# Altium integrated library Analog Devices Data Converters Digital-to-Analog Converters.IntLib: 2231 symbols (part 126 of 181)
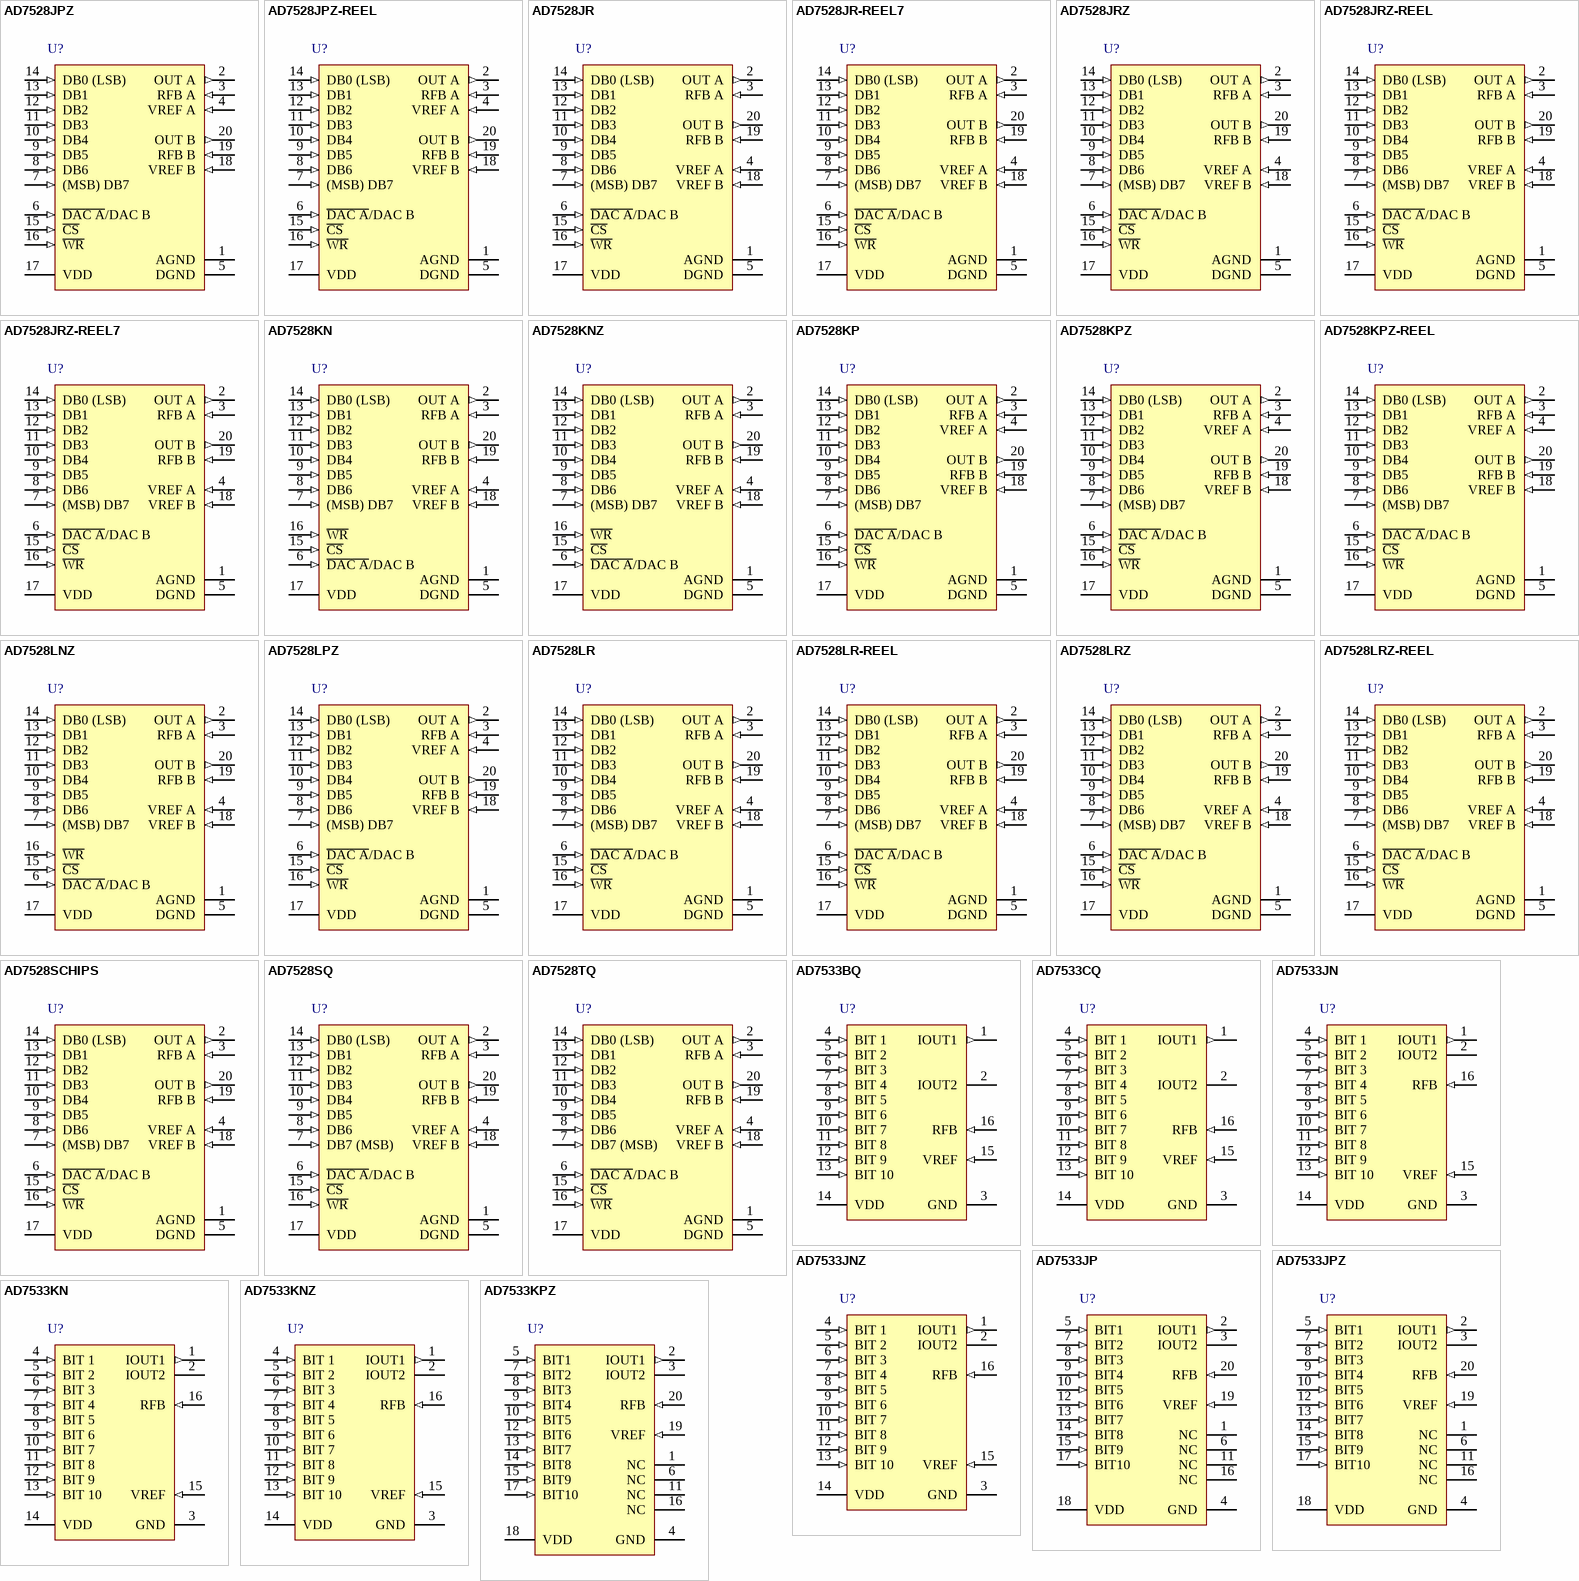
[diagram p239: symbols AD7528JPZ to AD7533KPZ]

## AD7533BQ
designator U?
Single 10-Bit CMOS Digital-to-Analog Converter, -40 to +85 degC, Q-16, Tube; Generic Part Number: AD7533; Manufacturer: Analog Devices; PartNumber: AD7533BQ; # DAC Outputs: 1; Max V+: 16.5V; Op Pwr Diss: 30mW; Resolution (Bits): 10; Settling Time: 600ns; Single Supply: Yes; DatasheetVersion: Rev.C; PackageVersion: 1996; PackageReference: Q-16; PackageDescription: DIP, 16-Pin, Skinny Dual In-line Package, 300mil Wide, Pitch 2.54 mm; Supplier 1: Digi-Key; Supplier Part Number 1: AD7533BQ-ND; Supplier 2: Mouser; Supplier Part Number 2: 584-AD7533BQ; Packing: Tube; RoHS: N; Mounting Technology: Through Hole; ComponentLink1Description: Manufacturer URL; ComponentLink1URL: http://www.analog.com/en/index.html; ComponentLink2Description: Datasheet; ComponentLink2URL: http://www.analog.com/static/imported-files/data_sheets/AD7533.pdf; ComponentLink3Description: Package Specification; ComponentLink3URL: http://www.analog.com/static/imported-files/packages/54083157002221Q_16.pdf; ComponentLink4Description: Product URL; ComponentLink4URL: http://www.analog.com/en/digital-to-analog-converters/da-converters/ad7533/products/product.html
footprint Q-16 (DIP, 16-Leads, Row Spacing 7.62mm, Pitch 2.54mm, Body 20.07x6.73mm)
pins: 1 IOUT1 (out) "DAC Current Output.", 2 IOUT2 "DAC Analog Ground. This pin should normally be tied to the analog ground of the system.", 3 GND (power) "Ground.", 4 BIT 1 (in) "MSB to LSB.", 5 BIT 2 (in) "MSB to LSB.", 6 BIT 3 (in) "MSB to LSB.", 7 BIT 4 (in) "MSB to LSB.", 8 BIT 5 (in) "MSB to LSB.", 9 BIT 6 (in) "MSB to LSB.", 10 BIT 7 (in) "MSB to LSB.", 11 BIT 8 (in) "MSB to LSB.", 12 BIT 9 (in) "MSB to LSB.", 13 BIT 10 (in) "MSB to LSB.", 14 VDD (power) "Positive Power Supply Input. These parts can be operated from a supply of 5 V to 16 V.", 15 VREF (in) "DAC Reference Voltage Input Terminal.", 16 RFB (in) "DAC Feedback Resistor Pin. Establish voltage output for the DAC by connecting RFB to external amplifier output."

## AD7533CQ
designator U?
Single 10-Bit CMOS Digital-to-Analog Converter, -40 to +85 degC, Q-16, Tube; Generic Part Number: AD7533; Manufacturer: Analog Devices; PartNumber: AD7533CQ; # DAC Outputs: 1; Max V+: 16.5V; Op Pwr Diss: 30mW; Resolution (Bits): 10; Settling Time: 600ns; Single Supply: Yes; DatasheetVersion: Rev.C; PackageVersion: 1996; PackageReference: Q-16; PackageDescription: DIP, 16-Pin, Skinny Dual In-line Package, 300mil Wide, Pitch 2.54 mm; Supplier 1: Digi-Key; Supplier Part Number 1: AD7533CQ-ND; Supplier 2: Newark; Supplier Part Number 2: 09B5774; Supplier 3: Mouser; Supplier Part Number 3: 584-AD7533CQ; Packing: Tube; RoHS: N; Mounting Technology: Through Hole; ComponentLink1Description: Manufacturer URL; ComponentLink1URL: http://www.analog.com/en/index.html; ComponentLink2Description: Datasheet; ComponentLink2URL: http://www.analog.com/static/imported-files/data_sheets/AD7533.pdf; ComponentLink3Description: Package Specification; ComponentLink3URL: http://www.analog.com/static/imported-files/packages/54083157002221Q_16.pdf; ComponentLink4Description: Product URL; ComponentLink4URL: http://www.analog.com/en/digital-to-analog-converters/da-converters/ad7533/products/product.html
footprint Q-16 (DIP, 16-Leads, Row Spacing 7.62mm, Pitch 2.54mm, Body 20.07x6.73mm)
pins: 1 IOUT1 (out) "DAC Current Output.", 2 IOUT2 "DAC Analog Ground. This pin should normally be tied to the analog ground of the system.", 3 GND (power) "Ground.", 4 BIT 1 (in) "MSB to LSB.", 5 BIT 2 (in) "MSB to LSB.", 6 BIT 3 (in) "MSB to LSB.", 7 BIT 4 (in) "MSB to LSB.", 8 BIT 5 (in) "MSB to LSB.", 9 BIT 6 (in) "MSB to LSB.", 10 BIT 7 (in) "MSB to LSB.", 11 BIT 8 (in) "MSB to LSB.", 12 BIT 9 (in) "MSB to LSB.", 13 BIT 10 (in) "MSB to LSB.", 14 VDD (power) "Positive Power Supply Input. These parts can be operated from a supply of 5 V to 16 V.", 15 VREF (in) "DAC Reference Voltage Input Terminal.", 16 RFB (in) "DAC Feedback Resistor Pin. Establish voltage output for the DAC by connecting RFB to external amplifier output."

## AD7533JN
designator U?
Single 10-Bit CMOS Digital-to-Analog Converter, 0 to +70 degC, N-16, Tube; Generic Part Number: AD7533; Manufacturer: Analog Devices; PartNumber: AD7533JN; # DAC Outputs: 1; Max V+: 16.5V; Op Pwr Diss: 30mW; Resolution (Bits): 10; Settling Time: 600ns; Single Supply: Yes; DatasheetVersion: Rev.C; PackageVersion: 070706-A; PackageReference: N-16; PackageDescription: 16-Lead Plastic Dual In-Line Package [PDIP] Narrow Body; Supplier 1: Digi-Key; Supplier Part Number 1: AD7533JN-ND; Supplier 2: Mouser; Supplier Part Number 2: 584-AD7533JN; Packing: Tube; RoHS: N; Mounting Technology: Through Hole; Code_JEDEC: MS-001; ComponentLink1Description: Manufacturer URL; ComponentLink1URL: http://www.analog.com/en/index.html; ComponentLink2Description: Datasheet; ComponentLink2URL: http://www.analog.com/static/imported-files/data_sheets/AD7533.pdf; ComponentLink3Description: Package Specification; ComponentLink3URL: http://www.analog.com/static/imported-files/packages/44768431550332N_16.pdf; ComponentLink4Description: Product URL; ComponentLink4URL: http://www.analog.com/en/digital-to-analog-converters/da-converters/ad7533/products/product.html
footprint N-16 (DIP, 16-Leads, Row Spacing 7.62mm, Pitch 2.54mm, Body 20.1x6.6mm)
pins: 1 IOUT1 (out) "DAC Current Output.", 2 IOUT2 "DAC Analog Ground. This pin should normally be tied to the analog ground of the system.", 3 GND (power) "Ground.", 4 BIT 1 (in) "MSB to LSB.", 5 BIT 2 (in) "MSB to LSB.", 6 BIT 3 (in) "MSB to LSB.", 7 BIT 4 (in) "MSB to LSB.", 8 BIT 5 (in) "MSB to LSB.", 9 BIT 6 (in) "MSB to LSB.", 10 BIT 7 (in) "MSB to LSB.", 11 BIT 8 (in) "MSB to LSB.", 12 BIT 9 (in) "MSB to LSB.", 13 BIT 10 (in) "MSB to LSB.", 14 VDD (power) "Positive Power Supply Input. These parts can be operated from a supply of 5 V to 16 V.", 15 VREF (in) "DAC Reference Voltage Input Terminal.", 16 RFB (in) "DAC Feedback Resistor Pin. Establish voltage output for the DAC by connecting RFB to external amplifier output."

## AD7533JNZ
designator U?
Single 10-Bit CMOS Digital-to-Analog Converter, 0 to +70 degC, N-16, Pb-Free, Tube; Generic Part Number: AD7533; Manufacturer: Analog Devices; PartNumber: AD7533JNZ; # DAC Outputs: 1; Max V+: 16.5V; Op Pwr Diss: 30mW; Resolution (Bits): 10; Settling Time: 600ns; Single Supply: Yes; DatasheetVersion: Rev.C; PackageVersion: 070706-A; PackageReference: N-16; PackageDescription: 16-Lead Plastic Dual In-Line Package [PDIP] Narrow Body; Supplier 1: Digi-Key; Supplier Part Number 1: AD7533JNZ-ND; Supplier 2: Farnell; Supplier Part Number 2: 9605410; Supplier 3: Newark; Supplier Part Number 3: 59K4979; Supplier 4: Mouser; Supplier Part Number 4: 584-AD7533JNZ; Packing: Tube; RoHS: Y; Mounting Technology: Through Hole; Code_JEDEC: MS-001; ComponentLink1Description: Manufacturer URL; ComponentLink1URL: http://www.analog.com/en/index.html; ComponentLink2Description: Datasheet; ComponentLink2URL: http://www.analog.com/static/imported-files/data_sheets/AD7533.pdf; ComponentLink3Description: Package Specification; ComponentLink3URL: http://www.analog.com/static/imported-files/packages/44768431550332N_16.pdf; ComponentLink4Description: Product URL; ComponentLink4URL: http://www.analog.com/en/digital-to-analog-converters/da-converters/ad7533/products/product.html
footprint N-16 (DIP, 16-Leads, Row Spacing 7.62mm, Pitch 2.54mm, Body 20.1x6.6mm)
pins: 1 IOUT1 (out) "DAC Current Output.", 2 IOUT2 "DAC Analog Ground. This pin should normally be tied to the analog ground of the system.", 3 GND (power) "Ground.", 4 BIT 1 (in) "MSB to LSB.", 5 BIT 2 (in) "MSB to LSB.", 6 BIT 3 (in) "MSB to LSB.", 7 BIT 4 (in) "MSB to LSB.", 8 BIT 5 (in) "MSB to LSB.", 9 BIT 6 (in) "MSB to LSB.", 10 BIT 7 (in) "MSB to LSB.", 11 BIT 8 (in) "MSB to LSB.", 12 BIT 9 (in) "MSB to LSB.", 13 BIT 10 (in) "MSB to LSB.", 14 VDD (power) "Positive Power Supply Input. These parts can be operated from a supply of 5 V to 16 V.", 15 VREF (in) "DAC Reference Voltage Input Terminal.", 16 RFB (in) "DAC Feedback Resistor Pin. Establish voltage output for the DAC by connecting RFB to external amplifier output."

## AD7533JP
designator U?
Single 10-Bit CMOS Digital-to-Analog Converter, 0 to +70 degC, P-20A, Tube; Generic Part Number: AD7533; Manufacturer: Analog Devices; PartNumber: AD7533JP; # DAC Outputs: 1; Max V+: 16.5V; Op Pwr Diss: 30mW; Resolution (Bits): 10; Settling Time: 600ns; Single Supply: Yes; DatasheetVersion: Rev.C; PackageVersion: Nov-2002; PackageReference: P-20A; PackageDescription: 20-Lead Plastic Leaded Chip Carrier [PLCC]; Supplier 1: Digi-Key; Supplier Part Number 1: AD7533JP-ND; Supplier 2: Mouser; Supplier Part Number 2: 584-AD7533JP; Packing: Tube; RoHS: N; Mounting Technology: Surface Mount; Code_JEDEC: MO-047-AA; ComponentLink1Description: Manufacturer URL; ComponentLink1URL: http://www.analog.com/en/index.html; ComponentLink2Description: Datasheet; ComponentLink2URL: http://www.analog.com/static/imported-files/data_sheets/AD7533.pdf; ComponentLink3Description: Package Specification; ComponentLink3URL: http://www.analog.com/static/imported-files/packages/3121431516544404277643669223804694P20A.pdf; ComponentLink4Description: Product URL; ComponentLink4URL: http://www.analog.com/en/digital-to-analog-converters/da-converters/ad7533/products/product.html
footprint P-20A_N (Leaded Chip Carrier, 20-Leads, Body 9x9mm, Pitch 1.27mm, IPC Medium Density)
footprint P-20A_L (Leaded Chip Carrier, 20-Leads, Body 9x9mm, Pitch 1.27mm, IPC High Density)
footprint P-20A_M (Leaded Chip Carrier, 20-Leads, Body 9x9mm, Pitch 1.27mm, IPC Low Density)
pins: 1 NC "No Connect.", 2 IOUT1 (out) "DAC Current Output.", 3 IOUT2 "DAC Analog Ground. This pin should normally be tied to the analog ground of the system.", 4 GND (power) "Ground.", 5 BIT1 (in) "MSB to LSB.", 6 NC "No Connect.", 7 BIT2 (in) "MSB to LSB.", 8 BIT3 (in) "MSB to LSB.", 9 BIT4 (in) "MSB to LSB.", 10 BIT5 (in) "MSB to LSB.", 11 NC "No Connect.", 12 BIT6 (in) "MSB to LSB.", 13 BIT7 (in) "MSB to LSB.", 14 BIT8 (in) "MSB to LSB.", 15 BIT9 (in) "MSB to LSB.", 16 NC "No Connect.", 17 BIT10 (in) "MSB to LSB.", 18 VDD (power) "Positive Power Supply Input. These parts can be operated from a supply of 5 V to 16 V.", 19 VREF (in) "DAC Reference Voltage Input Terminal.", 20 RFB (in) "DAC Feedback Resistor Pin. Establish voltage output for the DAC by connecting RFB to external amplifier output."

## AD7533JPZ
designator U?
Single 10-Bit CMOS Digital-to-Analog Converter, 0 to +70 degC, P-20A, Pb-Free, Tube; Generic Part Number: AD7533; Manufacturer: Analog Devices; PartNumber: AD7533JPZ; # DAC Outputs: 1; Max V+: 16.5V; Op Pwr Diss: 30mW; Resolution (Bits): 10; Settling Time: 600ns; Single Supply: Yes; DatasheetVersion: Rev.C; PackageVersion: Nov-2002; PackageReference: P-20A; PackageDescription: 20-Lead Plastic Leaded Chip Carrier [PLCC]; Supplier 1: Digi-Key; Supplier Part Number 1: AD7533JPZ-ND; Supplier 2: Mouser; Supplier Part Number 2: 584-AD7533JPZ; Packing: Tube; RoHS: Y; Mounting Technology: Surface Mount; Code_JEDEC: MO-047-AA; ComponentLink1Description: Manufacturer URL; ComponentLink1URL: http://www.analog.com/en/index.html; ComponentLink2Description: Datasheet; ComponentLink2URL: http://www.analog.com/static/imported-files/data_sheets/AD7533.pdf; ComponentLink3Description: Package Specification; ComponentLink3URL: http://www.analog.com/static/imported-files/packages/3121431516544404277643669223804694P20A.pdf; ComponentLink4Description: Product URL; ComponentLink4URL: http://www.analog.com/en/digital-to-analog-converters/da-converters/ad7533/products/product.html
footprint P-20A_N (Leaded Chip Carrier, 20-Leads, Body 9x9mm, Pitch 1.27mm, IPC Medium Density)
footprint P-20A_L (Leaded Chip Carrier, 20-Leads, Body 9x9mm, Pitch 1.27mm, IPC High Density)
footprint P-20A_M (Leaded Chip Carrier, 20-Leads, Body 9x9mm, Pitch 1.27mm, IPC Low Density)
pins: 1 NC "No Connect.", 2 IOUT1 (out) "DAC Current Output.", 3 IOUT2 "DAC Analog Ground. This pin should normally be tied to the analog ground of the system.", 4 GND (power) "Ground.", 5 BIT1 (in) "MSB to LSB.", 6 NC "No Connect.", 7 BIT2 (in) "MSB to LSB.", 8 BIT3 (in) "MSB to LSB.", 9 BIT4 (in) "MSB to LSB.", 10 BIT5 (in) "MSB to LSB.", 11 NC "No Connect.", 12 BIT6 (in) "MSB to LSB.", 13 BIT7 (in) "MSB to LSB.", 14 BIT8 (in) "MSB to LSB.", 15 BIT9 (in) "MSB to LSB.", 16 NC "No Connect.", 17 BIT10 (in) "MSB to LSB.", 18 VDD (power) "Positive Power Supply Input. These parts can be operated from a supply of 5 V to 16 V.", 19 VREF (in) "DAC Reference Voltage Input Terminal.", 20 RFB (in) "DAC Feedback Resistor Pin. Establish voltage output for the DAC by connecting RFB to external amplifier output."

## AD7533KN
designator U?
Single 10-Bit CMOS Digital-to-Analog Converter, 0 to +70 degC, N-16, Tube; Generic Part Number: AD7533; Manufacturer: Analog Devices; PartNumber: AD7533KN; # DAC Outputs: 1; Max V+: 16.5V; Op Pwr Diss: 30mW; Resolution (Bits): 10; Settling Time: 600ns; Single Supply: Yes; DatasheetVersion: Rev.C; PackageVersion: 070706-A; PackageReference: N-16; PackageDescription: 16-Lead Plastic Dual In-Line Package [PDIP] Narrow Body; Supplier 1: Digi-Key; Supplier Part Number 1: AD7533KN-ND; Supplier 2: Mouser; Supplier Part Number 2: 584-AD7533KN; Packing: Tube; RoHS: N; Mounting Technology: Through Hole; Code_JEDEC: MS-001; ComponentLink1Description: Manufacturer URL; ComponentLink1URL: http://www.analog.com/en/index.html; ComponentLink2Description: Datasheet; ComponentLink2URL: http://www.analog.com/static/imported-files/data_sheets/AD7533.pdf; ComponentLink3Description: Package Specification; ComponentLink3URL: http://www.analog.com/static/imported-files/packages/44768431550332N_16.pdf; ComponentLink4Description: Product URL; ComponentLink4URL: http://www.analog.com/en/digital-to-analog-converters/da-converters/ad7533/products/product.html
footprint N-16 (DIP, 16-Leads, Row Spacing 7.62mm, Pitch 2.54mm, Body 20.1x6.6mm)
pins: 1 IOUT1 (out) "DAC Current Output.", 2 IOUT2 "DAC Analog Ground. This pin should normally be tied to the analog ground of the system.", 3 GND (power) "Ground.", 4 BIT 1 (in) "MSB to LSB.", 5 BIT 2 (in) "MSB to LSB.", 6 BIT 3 (in) "MSB to LSB.", 7 BIT 4 (in) "MSB to LSB.", 8 BIT 5 (in) "MSB to LSB.", 9 BIT 6 (in) "MSB to LSB.", 10 BIT 7 (in) "MSB to LSB.", 11 BIT 8 (in) "MSB to LSB.", 12 BIT 9 (in) "MSB to LSB.", 13 BIT 10 (in) "MSB to LSB.", 14 VDD (power) "Positive Power Supply Input. These parts can be operated from a supply of 5 V to 16 V.", 15 VREF (in) "DAC Reference Voltage Input Terminal.", 16 RFB (in) "DAC Feedback Resistor Pin. Establish voltage output for the DAC by connecting RFB to external amplifier output."

## AD7533KNZ
designator U?
Single 10-Bit CMOS Digital-to-Analog Converter, 0 to +70 degC, N-16, Pb-Free, Tube; Generic Part Number: AD7533; Manufacturer: Analog Devices; PartNumber: AD7533KNZ; # DAC Outputs: 1; Max V+: 16.5V; Op Pwr Diss: 30mW; Resolution (Bits): 10; Settling Time: 600ns; Single Supply: Yes; DatasheetVersion: Rev.C; PackageVersion: 070706-A; PackageReference: N-16; PackageDescription: 16-Lead Plastic Dual In-Line Package [PDIP] Narrow Body; Supplier 1: Digi-Key; Supplier Part Number 1: AD7533KNZ-ND; Supplier 2: Farnell; Supplier Part Number 2: 1438604; Supplier 3: Newark; Supplier Part Number 3: 59K4980; Supplier 4: Mouser; Supplier Part Number 4: 584-AD7533KNZ; Packing: Tube; RoHS: Y; Mounting Technology: Through Hole; Code_JEDEC: MS-001; ComponentLink1Description: Manufacturer URL; ComponentLink1URL: http://www.analog.com/en/index.html; ComponentLink2Description: Datasheet; ComponentLink2URL: http://www.analog.com/static/imported-files/data_sheets/AD7533.pdf; ComponentLink3Description: Package Specification; ComponentLink3URL: http://www.analog.com/static/imported-files/packages/44768431550332N_16.pdf; ComponentLink4Description: Product URL; ComponentLink4URL: http://www.analog.com/en/digital-to-analog-converters/da-converters/ad7533/products/product.html
footprint N-16 (DIP, 16-Leads, Row Spacing 7.62mm, Pitch 2.54mm, Body 20.1x6.6mm)
pins: 1 IOUT1 (out) "DAC Current Output.", 2 IOUT2 "DAC Analog Ground. This pin should normally be tied to the analog ground of the system.", 3 GND (power) "Ground.", 4 BIT 1 (in) "MSB to LSB.", 5 BIT 2 (in) "MSB to LSB.", 6 BIT 3 (in) "MSB to LSB.", 7 BIT 4 (in) "MSB to LSB.", 8 BIT 5 (in) "MSB to LSB.", 9 BIT 6 (in) "MSB to LSB.", 10 BIT 7 (in) "MSB to LSB.", 11 BIT 8 (in) "MSB to LSB.", 12 BIT 9 (in) "MSB to LSB.", 13 BIT 10 (in) "MSB to LSB.", 14 VDD (power) "Positive Power Supply Input. These parts can be operated from a supply of 5 V to 16 V.", 15 VREF (in) "DAC Reference Voltage Input Terminal.", 16 RFB (in) "DAC Feedback Resistor Pin. Establish voltage output for the DAC by connecting RFB to external amplifier output."

## AD7533KPZ
designator U?
Single 10-Bit CMOS Digital-to-Analog Converter, 0 to +70 degC, P-20A, Pb-Free, Tube; Generic Part Number: AD7533; Manufacturer: Analog Devices; PartNumber: AD7533KPZ; # DAC Outputs: 1; Max V+: 16.5V; Op Pwr Diss: 30mW; Resolution (Bits): 10; Settling Time: 600ns; Single Supply: Yes; DatasheetVersion: Rev.C; PackageVersion: Nov-2002; PackageReference: P-20A; PackageDescription: 20-Lead Plastic Leaded Chip Carrier [PLCC]; Supplier 1: Digi-Key; Supplier Part Number 1: AD7533KPZ-ND; Supplier 2: Mouser; Supplier Part Number 2: 584-AD7533KPZ; Packing: Tube; RoHS: Y; Mounting Technology: Surface Mount; Code_JEDEC: MO-047-AA; ComponentLink1Description: Manufacturer URL; ComponentLink1URL: http://www.analog.com/en/index.html; ComponentLink2Description: Datasheet; ComponentLink2URL: http://www.analog.com/static/imported-files/data_sheets/AD7533.pdf; ComponentLink3Description: Package Specification; ComponentLink3URL: http://www.analog.com/static/imported-files/packages/3121431516544404277643669223804694P20A.pdf; ComponentLink4Description: Product URL; ComponentLink4URL: http://www.analog.com/en/digital-to-analog-converters/da-converters/ad7533/products/product.html
footprint P-20A_N (Leaded Chip Carrier, 20-Leads, Body 9x9mm, Pitch 1.27mm, IPC Medium Density)
footprint P-20A_L (Leaded Chip Carrier, 20-Leads, Body 9x9mm, Pitch 1.27mm, IPC High Density)
footprint P-20A_M (Leaded Chip Carrier, 20-Leads, Body 9x9mm, Pitch 1.27mm, IPC Low Density)
pins: 1 NC "No Connect.", 2 IOUT1 (out) "DAC Current Output.", 3 IOUT2 "DAC Analog Ground. This pin should normally be tied to the analog ground of the system.", 4 GND (power) "Ground.", 5 BIT1 (in) "MSB to LSB.", 6 NC "No Connect.", 7 BIT2 (in) "MSB to LSB.", 8 BIT3 (in) "MSB to LSB.", 9 BIT4 (in) "MSB to LSB.", 10 BIT5 (in) "MSB to LSB.", 11 NC "No Connect.", 12 BIT6 (in) "MSB to LSB.", 13 BIT7 (in) "MSB to LSB.", 14 BIT8 (in) "MSB to LSB.", 15 BIT9 (in) "MSB to LSB.", 16 NC "No Connect.", 17 BIT10 (in) "MSB to LSB.", 18 VDD (power) "Positive Power Supply Input. These parts can be operated from a supply of 5 V to 16 V.", 19 VREF (in) "DAC Reference Voltage Input Terminal.", 20 RFB (in) "DAC Feedback Resistor Pin. Establish voltage output for the DAC by connecting RFB to external amplifier output."

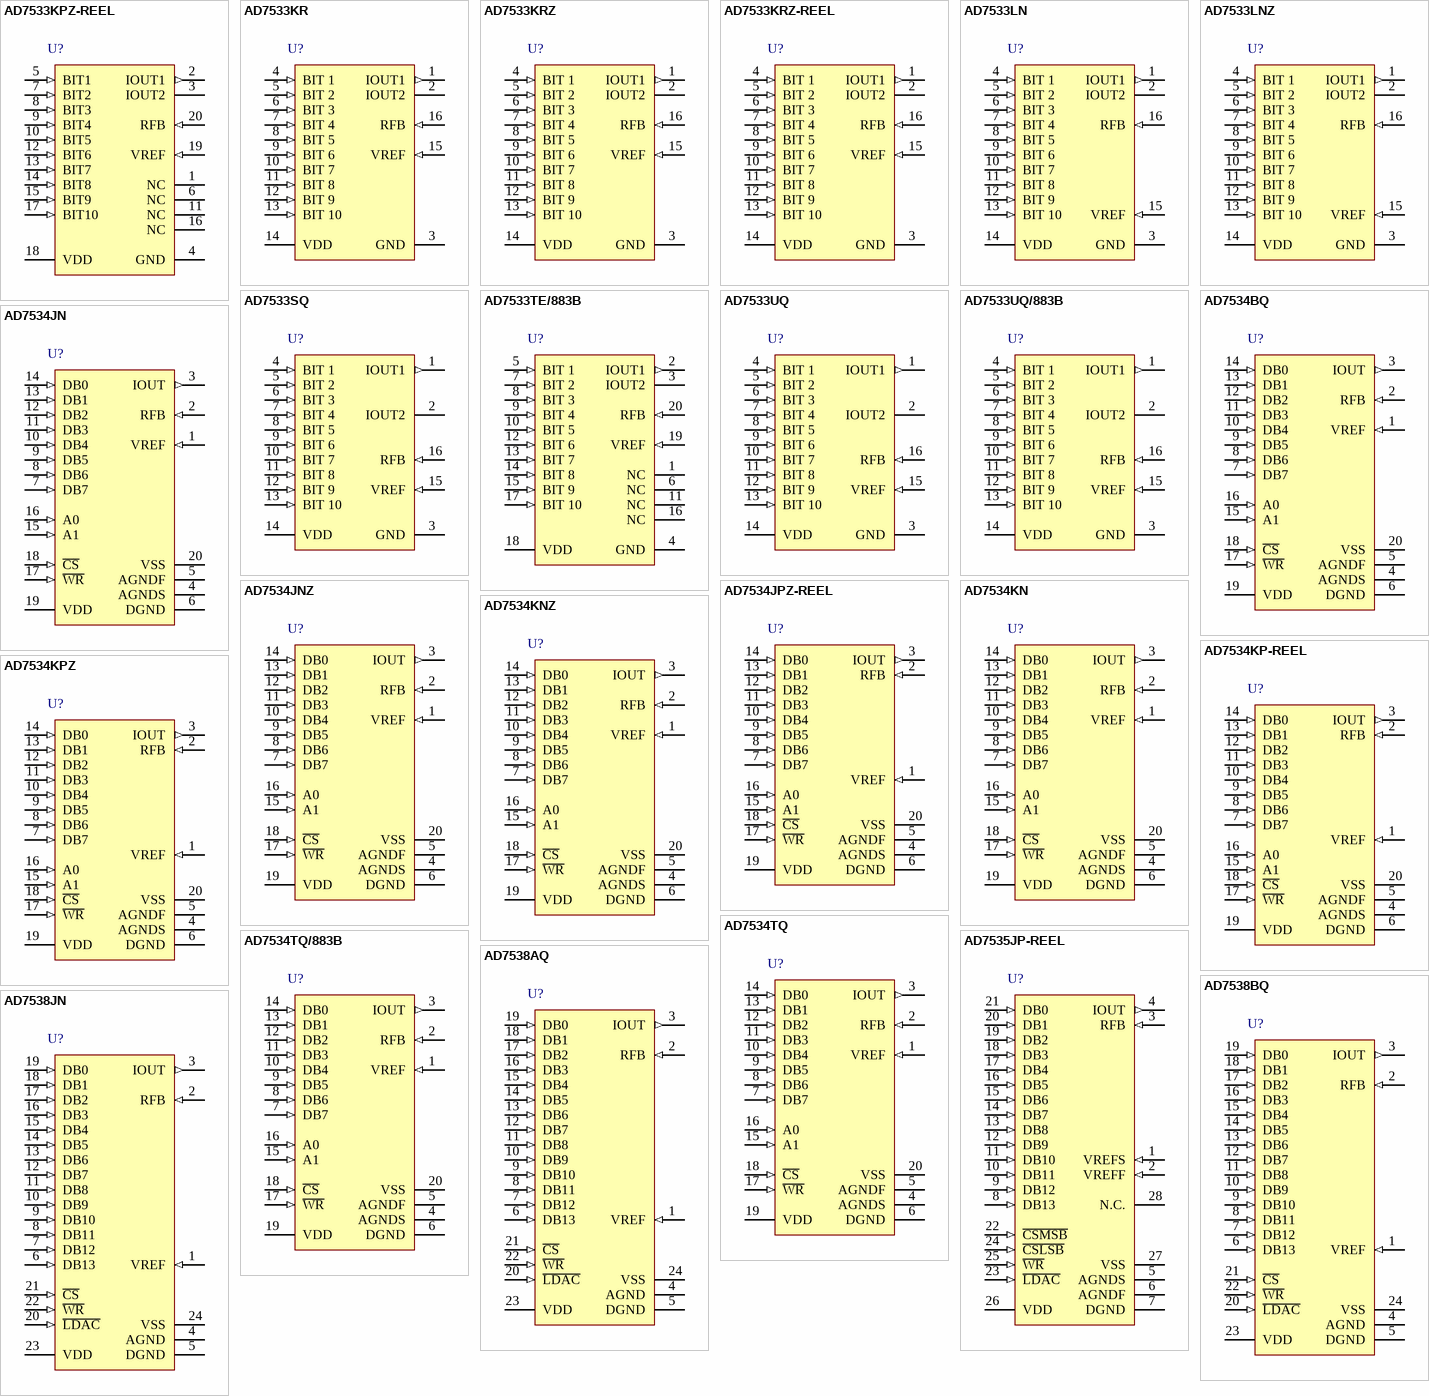
[diagram p68: symbols AD7533KPZ-REEL to AD7538JN]

## AD7533KPZ-REEL
designator U?
Single 10-Bit CMOS Digital-to-Analog Converter, 0 to +70 degC, P-20A, Pb-Free, Reel; Generic Part Number: AD7533; Manufacturer: Analog Devices; PartNumber: AD7533KPZ-REEL; # DAC Outputs: 1; Max V+: 16.5V; Op Pwr Diss: 30mW; Resolution (Bits): 10; Settling Time: 600ns; Single Supply: Yes; DatasheetVersion: Rev.C; PackageVersion: Nov-2002; PackageReference: P-20A; PackageDescription: 20-Lead Plastic Leaded Chip Carrier [PLCC]; Supplier 1: Digi-Key; Supplier Part Number 1: AD7533KPZ-REEL-ND; Supplier 2: Newark; Supplier Part Number 2: 12M8837; Supplier 3: Mouser; Supplier Part Number 3: 584-AD7533KPZ-R; Packing: Reel; RoHS: Y; Mounting Technology: Surface Mount; Code_JEDEC: MO-047-AA; ComponentLink1Description: Manufacturer URL; ComponentLink1URL: http://www.analog.com/en/index.html; ComponentLink2Description: Datasheet; ComponentLink2URL: http://www.analog.com/static/imported-files/data_sheets/AD7533.pdf; ComponentLink3Description: Package Specification; ComponentLink3URL: http://www.analog.com/static/imported-files/packages/3121431516544404277643669223804694P20A.pdf; ComponentLink4Description: Product URL; ComponentLink4URL: http://www.analog.com/en/digital-to-analog-converters/da-converters/ad7533/products/product.html
footprint P-20A_N (Leaded Chip Carrier, 20-Leads, Body 9x9mm, Pitch 1.27mm, IPC Medium Density)
footprint P-20A_L (Leaded Chip Carrier, 20-Leads, Body 9x9mm, Pitch 1.27mm, IPC High Density)
footprint P-20A_M (Leaded Chip Carrier, 20-Leads, Body 9x9mm, Pitch 1.27mm, IPC Low Density)
pins: 1 NC "No Connect.", 2 IOUT1 (out) "DAC Current Output.", 3 IOUT2 "DAC Analog Ground. This pin should normally be tied to the analog ground of the system.", 4 GND (power) "Ground.", 5 BIT1 (in) "MSB to LSB.", 6 NC "No Connect.", 7 BIT2 (in) "MSB to LSB.", 8 BIT3 (in) "MSB to LSB.", 9 BIT4 (in) "MSB to LSB.", 10 BIT5 (in) "MSB to LSB.", 11 NC "No Connect.", 12 BIT6 (in) "MSB to LSB.", 13 BIT7 (in) "MSB to LSB.", 14 BIT8 (in) "MSB to LSB.", 15 BIT9 (in) "MSB to LSB.", 16 NC "No Connect.", 17 BIT10 (in) "MSB to LSB.", 18 VDD (power) "Positive Power Supply Input. These parts can be operated from a supply of 5 V to 16 V.", 19 VREF (in) "DAC Reference Voltage Input Terminal.", 20 RFB (in) "DAC Feedback Resistor Pin. Establish voltage output for the DAC by connecting RFB to external amplifier output."

## AD7533KR
designator U?
Single 10-Bit CMOS Digital-to-Analog Converter, 0 to +70 degC, RW-16, Tube; Generic Part Number: AD7533; Manufacturer: Analog Devices; PartNumber: AD7533KR; # DAC Outputs: 1; Max V+: 16.5V; Op Pwr Diss: 30mW; Resolution (Bits): 10; Settling Time: 600ns; Single Supply: Yes; DatasheetVersion: Rev.C; PackageVersion: 032707-B; PackageReference: RW-16; PackageDescription: 16-Lead Standard Small Outline Package [SOIC_W]; Supplier 1: Digi-Key; Supplier Part Number 1: AD7533KR-ND; Supplier 2: Mouser; Supplier Part Number 2: 584-AD7533KR; Packing: Tube; RoHS: N; Mounting Technology: Surface Mount; Code_JEDEC: MS-013-AA; Code_IPC: SOIC127P1030-16; ComponentLink1Description: Manufacturer URL; ComponentLink1URL: http://www.analog.com/en/index.html; ComponentLink2Description: Datasheet; ComponentLink2URL: http://www.analog.com/static/imported-files/data_sheets/AD7533.pdf; ComponentLink3Description: Package Specification; ComponentLink3URL: http://www.analog.com/static/imported-files/packages/PKG_PDF/SOIC_WIDE%20%28RW%29/RW_16.pdf; ComponentLink4Description: Product URL; ComponentLink4URL: http://www.analog.com/en/digital-to-analog-converters/da-converters/ad7533/products/product.html
footprint RW-16_N (SOIC, 16-Leads, Body 10.3x7.5mm, Pitch 1.27mm, IPC Medium Density)
footprint RW-16_L (SOIC, 16-Leads, Body 10.3x7.5mm, Pitch 1.27mm, IPC High Density)
footprint RW-16_M (SOIC, 16-Leads, Body 10.3x7.5mm, Pitch 1.27mm, IPC Low Density)
pins: 1 IOUT1 (out) "DAC Current Output.", 2 IOUT2 "DAC Analog Ground. This pin should normally be tied to the analog ground of the system.", 3 GND (power) "Ground.", 4 BIT 1 (in) "MSB to LSB.", 5 BIT 2 (in) "MSB to LSB.", 6 BIT 3 (in) "MSB to LSB.", 7 BIT 4 (in) "MSB to LSB.", 8 BIT 5 (in) "MSB to LSB.", 9 BIT 6 (in) "MSB to LSB.", 10 BIT 7 (in) "MSB to LSB.", 11 BIT 8 (in) "MSB to LSB.", 12 BIT 9 (in) "MSB to LSB.", 13 BIT 10 (in) "MSB to LSB.", 14 VDD (power) "Positive Power Supply Input. These parts can be operated from a supply of 5 V to 16 V.", 15 VREF (in) "DAC Reference Voltage Input Terminal.", 16 RFB (in) "DAC Feedback Resistor Pin. Establish voltage output for the DAC by connecting RFB to external amplifier output."

## AD7533KRZ
designator U?
Single 10-Bit CMOS Digital-to-Analog Converter, 0 to +70 degC, RW-16, Pb-Free, Tube; Generic Part Number: AD7533; Manufacturer: Analog Devices; PartNumber: AD7533KRZ; # DAC Outputs: 1; Max V+: 16.5V; Op Pwr Diss: 30mW; Resolution (Bits): 10; Settling Time: 600ns; Single Supply: Yes; DatasheetVersion: Rev.C; PackageVersion: 032707-B; PackageReference: RW-16; PackageDescription: 16-Lead Standard Small Outline Package [SOIC_W]; Supplier 1: Digi-Key; Supplier Part Number 1: AD7533KRZ-ND; Supplier 2: Newark; Supplier Part Number 2: 88H0005; Supplier 3: Mouser; Supplier Part Number 3: 584-AD7533KRZ; Packing: Tube; RoHS: Y; Mounting Technology: Surface Mount; Code_JEDEC: MS-013-AA; Code_IPC: SOIC127P1030-16; ComponentLink1Description: Manufacturer URL; ComponentLink1URL: http://www.analog.com/en/index.html; ComponentLink2Description: Datasheet; ComponentLink2URL: http://www.analog.com/static/imported-files/data_sheets/AD7533.pdf; ComponentLink3Description: Package Specification; ComponentLink3URL: http://www.analog.com/static/imported-files/packages/PKG_PDF/SOIC_WIDE%20%28RW%29/RW_16.pdf; ComponentLink4Description: Product URL; ComponentLink4URL: http://www.analog.com/en/digital-to-analog-converters/da-converters/ad7533/products/product.html
footprint RW-16_N (SOIC, 16-Leads, Body 10.3x7.5mm, Pitch 1.27mm, IPC Medium Density)
footprint RW-16_L (SOIC, 16-Leads, Body 10.3x7.5mm, Pitch 1.27mm, IPC High Density)
footprint RW-16_M (SOIC, 16-Leads, Body 10.3x7.5mm, Pitch 1.27mm, IPC Low Density)
pins: 1 IOUT1 (out) "DAC Current Output.", 2 IOUT2 "DAC Analog Ground. This pin should normally be tied to the analog ground of the system.", 3 GND (power) "Ground.", 4 BIT 1 (in) "MSB to LSB.", 5 BIT 2 (in) "MSB to LSB.", 6 BIT 3 (in) "MSB to LSB.", 7 BIT 4 (in) "MSB to LSB.", 8 BIT 5 (in) "MSB to LSB.", 9 BIT 6 (in) "MSB to LSB.", 10 BIT 7 (in) "MSB to LSB.", 11 BIT 8 (in) "MSB to LSB.", 12 BIT 9 (in) "MSB to LSB.", 13 BIT 10 (in) "MSB to LSB.", 14 VDD (power) "Positive Power Supply Input. These parts can be operated from a supply of 5 V to 16 V.", 15 VREF (in) "DAC Reference Voltage Input Terminal.", 16 RFB (in) "DAC Feedback Resistor Pin. Establish voltage output for the DAC by connecting RFB to external amplifier output."

## AD7533KRZ-REEL
designator U?
Single 10-Bit CMOS Digital-to-Analog Converter, 0 to +70 degC, RW-16, Pb-Free, Reel; Generic Part Number: AD7533; Manufacturer: Analog Devices; PartNumber: AD7533KRZ-REEL; # DAC Outputs: 1; Max V+: 16.5V; Op Pwr Diss: 30mW; Resolution (Bits): 10; Settling Time: 600ns; Single Supply: Yes; DatasheetVersion: Rev.C; PackageVersion: 032707-B; PackageReference: RW-16; PackageDescription: 16-Lead Standard Small Outline Package [SOIC_W]; Supplier 1: Digi-Key; Supplier Part Number 1: AD7533KRZ-REEL-ND; Supplier 2: Mouser; Supplier Part Number 2: 584-AD7533KRZ-R; Packing: Reel; RoHS: Y; Mounting Technology: Surface Mount; Code_JEDEC: MS-013-AA; Code_IPC: SOIC127P1030-16; ComponentLink1Description: Manufacturer URL; ComponentLink1URL: http://www.analog.com/en/index.html; ComponentLink2Description: Datasheet; ComponentLink2URL: http://www.analog.com/static/imported-files/data_sheets/AD7533.pdf; ComponentLink3Description: Package Specification; ComponentLink3URL: http://www.analog.com/static/imported-files/packages/PKG_PDF/SOIC_WIDE%20%28RW%29/RW_16.pdf; ComponentLink4Description: Product URL; ComponentLink4URL: http://www.analog.com/en/digital-to-analog-converters/da-converters/ad7533/products/product.html
footprint RW-16_N (SOIC, 16-Leads, Body 10.3x7.5mm, Pitch 1.27mm, IPC Medium Density)
footprint RW-16_L (SOIC, 16-Leads, Body 10.3x7.5mm, Pitch 1.27mm, IPC High Density)
footprint RW-16_M (SOIC, 16-Leads, Body 10.3x7.5mm, Pitch 1.27mm, IPC Low Density)
pins: 1 IOUT1 (out) "DAC Current Output.", 2 IOUT2 "DAC Analog Ground. This pin should normally be tied to the analog ground of the system.", 3 GND (power) "Ground.", 4 BIT 1 (in) "MSB to LSB.", 5 BIT 2 (in) "MSB to LSB.", 6 BIT 3 (in) "MSB to LSB.", 7 BIT 4 (in) "MSB to LSB.", 8 BIT 5 (in) "MSB to LSB.", 9 BIT 6 (in) "MSB to LSB.", 10 BIT 7 (in) "MSB to LSB.", 11 BIT 8 (in) "MSB to LSB.", 12 BIT 9 (in) "MSB to LSB.", 13 BIT 10 (in) "MSB to LSB.", 14 VDD (power) "Positive Power Supply Input. These parts can be operated from a supply of 5 V to 16 V.", 15 VREF (in) "DAC Reference Voltage Input Terminal.", 16 RFB (in) "DAC Feedback Resistor Pin. Establish voltage output for the DAC by connecting RFB to external amplifier output."

## AD7533LN
designator U?
Single 10-Bit CMOS Digital-to-Analog Converter, 0 to +70 degC, N-16, Tube; Generic Part Number: AD7533; Manufacturer: Analog Devices; PartNumber: AD7533LN; # DAC Outputs: 1; Max V+: 16.5V; Op Pwr Diss: 30mW; Resolution (Bits): 10; Settling Time: 600ns; Single Supply: Yes; DatasheetVersion: Rev.C; PackageVersion: 070706-A; PackageReference: N-16; PackageDescription: 16-Lead Plastic Dual In-Line Package [PDIP] Narrow Body; Supplier 1: Digi-Key; Supplier Part Number 1: AD7533LN-ND; Supplier 2: Mouser; Supplier Part Number 2: 584-AD7533LN; Packing: Tube; RoHS: N; Mounting Technology: Through Hole; Code_JEDEC: MS-001; ComponentLink1Description: Manufacturer URL; ComponentLink1URL: http://www.analog.com/en/index.html; ComponentLink2Description: Datasheet; ComponentLink2URL: http://www.analog.com/static/imported-files/data_sheets/AD7533.pdf; ComponentLink3Description: Package Specification; ComponentLink3URL: http://www.analog.com/static/imported-files/packages/44768431550332N_16.pdf; ComponentLink4Description: Product URL; ComponentLink4URL: http://www.analog.com/en/digital-to-analog-converters/da-converters/ad7533/products/product.html
footprint N-16 (DIP, 16-Leads, Row Spacing 7.62mm, Pitch 2.54mm, Body 20.1x6.6mm)
pins: 1 IOUT1 (out) "DAC Current Output.", 2 IOUT2 "DAC Analog Ground. This pin should normally be tied to the analog ground of the system.", 3 GND (power) "Ground.", 4 BIT 1 (in) "MSB to LSB.", 5 BIT 2 (in) "MSB to LSB.", 6 BIT 3 (in) "MSB to LSB.", 7 BIT 4 (in) "MSB to LSB.", 8 BIT 5 (in) "MSB to LSB.", 9 BIT 6 (in) "MSB to LSB.", 10 BIT 7 (in) "MSB to LSB.", 11 BIT 8 (in) "MSB to LSB.", 12 BIT 9 (in) "MSB to LSB.", 13 BIT 10 (in) "MSB to LSB.", 14 VDD (power) "Positive Power Supply Input. These parts can be operated from a supply of 5 V to 16 V.", 15 VREF (in) "DAC Reference Voltage Input Terminal.", 16 RFB (in) "DAC Feedback Resistor Pin. Establish voltage output for the DAC by connecting RFB to external amplifier output."

## AD7533LNZ
designator U?
Single 10-Bit CMOS Digital-to-Analog Converter, 0 to +70 degC, N-16, Pb-Free, Tube; Generic Part Number: AD7533; Manufacturer: Analog Devices; PartNumber: AD7533LNZ; # DAC Outputs: 1; Max V+: 16.5V; Op Pwr Diss: 30mW; Resolution (Bits): 10; Settling Time: 600ns; Single Supply: Yes; DatasheetVersion: Rev.C; PackageVersion: 070706-A; PackageReference: N-16; PackageDescription: 16-Lead Plastic Dual In-Line Package [PDIP] Narrow Body; Supplier 1: Digi-Key; Supplier Part Number 1: AD7533LNZ-ND; Supplier 2: Newark; Supplier Part Number 2: 59K4981; Packing: Tube; RoHS: Y; Mounting Technology: Through Hole; Code_JEDEC: MS-001; ComponentLink1Description: Manufacturer URL; ComponentLink1URL: http://www.analog.com/en/index.html; ComponentLink2Description: Datasheet; ComponentLink2URL: http://www.analog.com/static/imported-files/data_sheets/AD7533.pdf; ComponentLink3Description: Package Specification; ComponentLink3URL: http://www.analog.com/static/imported-files/packages/44768431550332N_16.pdf; ComponentLink4Description: Product URL; ComponentLink4URL: http://www.analog.com/en/digital-to-analog-converters/da-converters/ad7533/products/product.html
footprint N-16 (DIP, 16-Leads, Row Spacing 7.62mm, Pitch 2.54mm, Body 20.1x6.6mm)
pins: 1 IOUT1 (out) "DAC Current Output.", 2 IOUT2 "DAC Analog Ground. This pin should normally be tied to the analog ground of the system.", 3 GND (power) "Ground.", 4 BIT 1 (in) "MSB to LSB.", 5 BIT 2 (in) "MSB to LSB.", 6 BIT 3 (in) "MSB to LSB.", 7 BIT 4 (in) "MSB to LSB.", 8 BIT 5 (in) "MSB to LSB.", 9 BIT 6 (in) "MSB to LSB.", 10 BIT 7 (in) "MSB to LSB.", 11 BIT 8 (in) "MSB to LSB.", 12 BIT 9 (in) "MSB to LSB.", 13 BIT 10 (in) "MSB to LSB.", 14 VDD (power) "Positive Power Supply Input. These parts can be operated from a supply of 5 V to 16 V.", 15 VREF (in) "DAC Reference Voltage Input Terminal.", 16 RFB (in) "DAC Feedback Resistor Pin. Establish voltage output for the DAC by connecting RFB to external amplifier output."

## AD7533SQ
designator U?
Single 10-Bit CMOS Digital-to-Analog Converter, -55 to +125 degC, Q-16, Tube; Generic Part Number: AD7533; Manufacturer: Analog Devices; PartNumber: AD7533SQ; # DAC Outputs: 1; Max V+: 16.5V; Op Pwr Diss: 30mW; Resolution (Bits): 10; Settling Time: 600ns; Single Supply: Yes; DatasheetVersion: Rev.C; PackageVersion: 1996; PackageReference: Q-16; PackageDescription: DIP, 16-Pin, Skinny Dual In-line Package, 300mil Wide, Pitch 2.54 mm; Supplier 1: Digi-Key; Supplier Part Number 1: AD7533SQ-ND; Supplier 2: Newark; Supplier Part Number 2: 16F3381; Supplier 3: Mouser; Supplier Part Number 3: 584-AD7533SQ; Packing: Tube; RoHS: N; Mounting Technology: Through Hole; ComponentLink1Description: Manufacturer URL; ComponentLink1URL: http://www.analog.com/en/index.html; ComponentLink2Description: Datasheet; ComponentLink2URL: http://www.analog.com/static/imported-files/data_sheets/AD7533.pdf; ComponentLink3Description: Package Specification; ComponentLink3URL: http://www.analog.com/static/imported-files/packages/54083157002221Q_16.pdf; ComponentLink4Description: Product URL; ComponentLink4URL: http://www.analog.com/en/digital-to-analog-converters/da-converters/ad7533/products/product.html
footprint Q-16 (DIP, 16-Leads, Row Spacing 7.62mm, Pitch 2.54mm, Body 20.07x6.73mm)
pins: 1 IOUT1 (out) "DAC Current Output.", 2 IOUT2 "DAC Analog Ground. This pin should normally be tied to the analog ground of the system.", 3 GND (power) "Ground.", 4 BIT 1 (in) "MSB to LSB.", 5 BIT 2 (in) "MSB to LSB.", 6 BIT 3 (in) "MSB to LSB.", 7 BIT 4 (in) "MSB to LSB.", 8 BIT 5 (in) "MSB to LSB.", 9 BIT 6 (in) "MSB to LSB.", 10 BIT 7 (in) "MSB to LSB.", 11 BIT 8 (in) "MSB to LSB.", 12 BIT 9 (in) "MSB to LSB.", 13 BIT 10 (in) "MSB to LSB.", 14 VDD (power) "Positive Power Supply Input. These parts can be operated from a supply of 5 V to 16 V.", 15 VREF (in) "DAC Reference Voltage Input Terminal.", 16 RFB (in) "DAC Feedback Resistor Pin. Establish voltage output for the DAC by connecting RFB to external amplifier output."

## AD7533TE/883B
designator U?
Single 10-Bit CMOS Digital-to-Analog Converter, -55 to +125 degC, E-20-1, Tube; Generic Part Number: AD7533; Manufacturer: Analog Devices; PartNumber: AD7533TE/883B; # DAC Outputs: 1; Max V+: 16.5V; Op Pwr Diss: 30mW; Resolution (Bits): 10; Settling Time: 600ns; Single Supply: Yes; DatasheetVersion: Rev.C; PackageVersion: 022106-A; PackageReference: E-20-1; PackageDescription: 20-Terminal Ceramic Leadless Chip Carrier [LCC]; Supplier 1: Mouser; Supplier Part Number 1: 584-AD7533TE883B; Packing: Tube; RoHS: N; Mounting Technology: Surface Mount; ComponentLink1Description: Manufacturer URL; ComponentLink1URL: http://www.analog.com/en/index.html; ComponentLink2Description: Datasheet; ComponentLink2URL: http://www.analog.com/static/imported-files/data_sheets/AD7533.pdf; ComponentLink3Description: Package Specification; ComponentLink3URL: http://www.analog.com/static/imported-files/packages/PKG_PDF/LCC(E)/E_20_1.pdf; ComponentLink4Description: Product URL; ComponentLink4URL: http://www.analog.com/en/digital-to-analog-converters/da-converters/ad7533/products/product.html
footprint E-20-1_N (Leadless Chip Carrier, 20-Leads, Body 8.9x8.9mm, Pitch 1.27mm, IPC Medium Density)
footprint E-20-1_L (Leadless Chip Carrier, 20-Leads, Body 8.9x8.9mm, Pitch 1.27mm, IPC High Density)
footprint E-20-1_M (Leadless Chip Carrier, 20-Leads, Body 8.9x8.9mm, Pitch 1.27mm, IPC Low Density)
pins: 1 NC "No Connect.", 2 IOUT1 (out) "DAC Current Output.", 3 IOUT2 "DAC Analog Ground. This pin should normally be tied to the analog ground of the system.", 4 GND (power) "Ground.", 5 BIT 1 (in) "MSB to LSB.", 6 NC "No Connect.", 7 BIT 2 (in) "MSB to LSB.", 8 BIT 3 (in) "MSB to LSB.", 9 BIT 4 (in) "MSB to LSB.", 10 BIT 5 (in) "MSB to LSB.", 11 NC "No Connect.", 12 BIT 6 (in) "MSB to LSB.", 13 BIT 7 (in) "MSB to LSB.", 14 BIT 8 (in) "MSB to LSB.", 15 BIT 9 (in) "MSB to LSB.", 16 NC "No Connect.", 17 BIT 10 (in) "MSB to LSB.", 18 VDD (power) "Positive Power Supply Input. These parts can be operated from a supply of 5 V to 16 V.", 19 VREF (in) "DAC Reference Voltage Input Terminal.", 20 RFB (in) "DAC Feedback Resistor Pin. Establish voltage output for the DAC by connecting RFB to external amplifier output."

## AD7533UQ
designator U?
Single 10-Bit CMOS Digital-to-Analog Converter, -55 to +125 degC, Q-16, Tube; Generic Part Number: AD7533; Manufacturer: Analog Devices; PartNumber: AD7533UQ; # DAC Outputs: 1; Max V+: 16.5V; Op Pwr Diss: 30mW; Resolution (Bits): 10; Settling Time: 600ns; Single Supply: Yes; DatasheetVersion: Rev.C; PackageVersion: 1996; PackageReference: Q-16; PackageDescription: DIP, 16-Pin, Skinny Dual In-line Package, 300mil Wide, Pitch 2.54 mm; Supplier 1: Digi-Key; Supplier Part Number 1: AD7533UQ-ND; Supplier 2: Newark; Supplier Part Number 2: 16F3383; Supplier 3: Mouser; Supplier Part Number 3: 584-AD7533UQ; Packing: Tube; RoHS: N; Mounting Technology: Through Hole; ComponentLink1Description: Manufacturer URL; ComponentLink1URL: http://www.analog.com/en/index.html; ComponentLink2Description: Datasheet; ComponentLink2URL: http://www.analog.com/static/imported-files/data_sheets/AD7533.pdf; ComponentLink3Description: Package Specification; ComponentLink3URL: http://www.analog.com/static/imported-files/packages/54083157002221Q_16.pdf; ComponentLink4Description: Product URL; ComponentLink4URL: http://www.analog.com/en/digital-to-analog-converters/da-converters/ad7533/products/product.html
footprint Q-16 (DIP, 16-Leads, Row Spacing 7.62mm, Pitch 2.54mm, Body 20.07x6.73mm)
pins: 1 IOUT1 (out) "DAC Current Output.", 2 IOUT2 "DAC Analog Ground. This pin should normally be tied to the analog ground of the system.", 3 GND (power) "Ground.", 4 BIT 1 (in) "MSB to LSB.", 5 BIT 2 (in) "MSB to LSB.", 6 BIT 3 (in) "MSB to LSB.", 7 BIT 4 (in) "MSB to LSB.", 8 BIT 5 (in) "MSB to LSB.", 9 BIT 6 (in) "MSB to LSB.", 10 BIT 7 (in) "MSB to LSB.", 11 BIT 8 (in) "MSB to LSB.", 12 BIT 9 (in) "MSB to LSB.", 13 BIT 10 (in) "MSB to LSB.", 14 VDD (power) "Positive Power Supply Input. These parts can be operated from a supply of 5 V to 16 V.", 15 VREF (in) "DAC Reference Voltage Input Terminal.", 16 RFB (in) "DAC Feedback Resistor Pin. Establish voltage output for the DAC by connecting RFB to external amplifier output."

## AD7533UQ/883B
designator U?
Single 10-Bit CMOS Digital-to-Analog Converter, -55 to +125 degC, Q-16, Tube; Generic Part Number: AD7533; Manufacturer: Analog Devices; PartNumber: AD7533UQ/883B; # DAC Outputs: 1; Max V+: 16.5V; Op Pwr Diss: 30mW; Resolution (Bits): 10; Settling Time: 600ns; Single Supply: Yes; DatasheetVersion: Rev.C; PackageVersion: 1996; PackageReference: Q-16; PackageDescription: DIP, 16-Pin, Skinny Dual In-line Package, 300mil Wide, Pitch 2.54 mm; Supplier 1: Newark; Supplier Part Number 1: 30M2244; Supplier 2: Mouser; Supplier Part Number 2: 584-AD7533UQ883B; Packing: Tube; RoHS: N; Mounting Technology: Through Hole; ComponentLink1Description: Manufacturer URL; ComponentLink1URL: http://www.analog.com/en/index.html; ComponentLink2Description: Datasheet; ComponentLink2URL: http://www.analog.com/static/imported-files/data_sheets/AD7533.pdf; ComponentLink3Description: Package Specification; ComponentLink3URL: http://www.analog.com/static/imported-files/packages/54083157002221Q_16.pdf; ComponentLink4Description: Product URL; ComponentLink4URL: http://www.analog.com/en/digital-to-analog-converters/da-converters/ad7533/products/product.html
footprint Q-16 (DIP, 16-Leads, Row Spacing 7.62mm, Pitch 2.54mm, Body 20.07x6.73mm)
pins: 1 IOUT1 (out) "DAC Current Output.", 2 IOUT2 "DAC Analog Ground. This pin should normally be tied to the analog ground of the system.", 3 GND (power) "Ground.", 4 BIT 1 (in) "MSB to LSB.", 5 BIT 2 (in) "MSB to LSB.", 6 BIT 3 (in) "MSB to LSB.", 7 BIT 4 (in) "MSB to LSB.", 8 BIT 5 (in) "MSB to LSB.", 9 BIT 6 (in) "MSB to LSB.", 10 BIT 7 (in) "MSB to LSB.", 11 BIT 8 (in) "MSB to LSB.", 12 BIT 9 (in) "MSB to LSB.", 13 BIT 10 (in) "MSB to LSB.", 14 VDD (power) "Positive Power Supply Input. These parts can be operated from a supply of 5 V to 16 V.", 15 VREF (in) "DAC Reference Voltage Input Terminal.", 16 RFB (in) "DAC Feedback Resistor Pin. Establish voltage output for the DAC by connecting RFB to external amplifier output."

## AD7534BQ
designator U?
Single 14-Bit uP-Compatible Digital-to-Analog Converter, -25 to +125 degC, Q-20, Tube; Generic Part Number: AD7534; Manufacturer: Analog Devices; PartNumber: AD7534BQ; # DAC Outputs: 1; Max V+: 15.75V; Op Pwr Diss: 45mW; Resolution (Bits): 14; Settling Time: 1.5µs; Single Supply: No; DatasheetVersion: Rev.A; PackageVersion: Dec-2004; PackageReference: Q-20; PackageDescription: 20-Lead Ceramic Dual In-Line Package [CERDIP]; Supplier 1: Digi-Key; Supplier Part Number 1: AD7534BQ-ND; Supplier 2: Mouser; Supplier Part Number 2: 584-AD7534BQ; Packing: Tube; RoHS: N; Mounting Technology: Through Hole; ComponentLink1Description: Manufacturer URL; ComponentLink1URL: http://www.analog.com/en/index.html; ComponentLink2Description: Datasheet; ComponentLink2URL: http://www.analog.com/static/imported-files/data_sheets/AD7534.pdf; ComponentLink3Description: Package Specification; ComponentLink3URL: http://www.analog.com/static/imported-files/packages/50516416473314Q_20.pdf; ComponentLink4Description: Product URL; ComponentLink4URL: http://www.analog.com/en/digital-to-analog-converters/da-converters/ad7534/products/product.html
footprint Q-20 (DIP, 20-Leads, Row Spacing 7.62mm, Pitch 2.54mm, Body 25.9x6.7mm)
pins: 1 VREF (in) "Reference Input Voltage.", 2 RFB (in) "Feedback resistor.Used to close the loop around an external op-amp.", 3 IOUT (out) "Current Output Terminal.", 4 AGNDS (power) "Analog ground sense line;Reference point for external circuitry.This pin should  carry minimal current.", 5 AGNDF (power) "Analog ground force line;carries current from internal analog ground connections.AGNDF and AGNDS are tied together internally.", 6 DGND (power) "Digital Ground.", 7 DB7 (in) "Data Bit 7.", 8 DB6 (in) "Data Bit 6.", 9 DB5 (in) "Data Bit 5 or Data Bit 13 (DAC MSB).", 10 DB4 (in) "Data Bit 4 or Data Bit 12.", 11 DB3 (in) "Data Bit 3 or Data Bit 11.", 12 DB2 (in) "Data Bit 2 or Data Bit 10.", 13 DB1 (in) "Data Bit 1 or Data Bit 9.", 14 DB0 (in) "Data Bit 0 or Data Bit 8.", 15 A1 (in) "Address line 1.", 16 A0 (in) "Address line 0.", 17 ~{WR} (in) "Write input.Active low.", 18 ~{CS} (in) "Chip Select Input.Active low.", 19 VDD (power) "+12 Vto +15 V supply input.", 20 VSS (power) "Bias pin for High Temperature Low Leakage configuration.To implement low leakage system,the pin should be at a negative voltage.See Figures4,5 or 6 for recommended circuitry."

## AD7534JN
designator U?
Single 14-Bit uP-Compatible Digital-to-Analog Converter, 0 to +70 degC, N-20, Tube; Generic Part Number: AD7534; Manufacturer: Analog Devices; PartNumber: AD7534JN; # DAC Outputs: 1; Max V+: 15.75V; Op Pwr Diss: 45mW; Resolution (Bits): 14; Settling Time: 1.5µs; Single Supply: No; DatasheetVersion: Rev.A; PackageVersion: 070706-A; PackageReference: N-20; PackageDescription: 20-Lead Plastic Dual In-Line Package [PDIP] Narrow Body; Supplier 1: Digi-Key; Supplier Part Number 1: AD7534JN-ND; Supplier 2: Mouser; Supplier Part Number 2: 584-AD7534JN; Packing: Tube; RoHS: N; Mounting Technology: Through Hole; Code_JEDEC: MS-001; ComponentLink1Description: Manufacturer URL; ComponentLink1URL: http://www.analog.com/en/index.html; ComponentLink2Description: Datasheet; ComponentLink2URL: http://www.analog.com/static/imported-files/data_sheets/AD7534.pdf; ComponentLink3Description: Package Specification; ComponentLink3URL: http://www.analog.com/static/imported-files/packages/50601349676519N_20.pdf; ComponentLink4Description: Product URL; ComponentLink4URL: http://www.analog.com/en/digital-to-analog-converters/da-converters/ad7534/products/product.html
footprint N-20 (DIP, 20-Leads, Row Spacing 7.62mm, Pitch 2.54mm, Body 25.9x6.6mm)
pins: 1 VREF (in) "Reference Input Voltage", 2 RFB (in) "Feedback resistor. Used to close the loop around an external op-amp.", 3 IOUT (out) "Current Output Terminal", 4 AGNDS (power) "Analog ground sense line. Reference point for external circuitry. This pin should carry minimal current.", 5 AGNDF (power) "Analog ground force line; carries current from internal analog ground connections. AGNDF and AGNDS are tied together internally.", 6 DGND (power) "Digital Ground.", 7 DB7 (in) "Data Bit 7", 8 DB6 (in) "Data Bit 6", 9 DB5 (in) "Data Bit 5 or  Data Bit 13(DAC MSB)", 10 DB4 (in) "Data Bit 4 or  Data Bit 12", 11 DB3 (in) "Data Bit 3 or  Data Bit 11", 12 DB2 (in) "Data Bit 2 or  Data Bit 10", 13 DB1 (in) "Data Bit 1 or  Data Bit 9", 14 DB0 (in) "Data Bit 0 or  Data Bit 8", 15 A1 (in) "Address line 1", 16 A0 (in) "Address line 0", 17 ~{WR} (in) "Write input. Active low.", 18 ~{CS} (in) "Chip Select Input. Active low.", 19 VDD (power) "+12 V to +15 V supply input.", 20 VSS (power) "Bias pin for High Temperature Low Leakage configuration. To implement low leakage system, the pin should be at a negative voltage. See Figures 4,5 or 6 for recommended circuitry."

## AD7534JNZ
designator U?
Single 14-Bit uP-Compatible Digital-to-Analog Converter, 0 to +70 degC, N-20, Pb-Free, Tube; Generic Part Number: AD7534; Manufacturer: Analog Devices; PartNumber: AD7534JNZ; # DAC Outputs: 1; Max V+: 15.75V; Op Pwr Diss: 45mW; Resolution (Bits): 14; Settling Time: 1.5µs; Single Supply: No; DatasheetVersion: Rev.A; PackageVersion: 070706-A; PackageReference: N-20; PackageDescription: 20-Lead Plastic Dual In-Line Package [PDIP] Narrow Body; Supplier 1: Digi-Key; Supplier Part Number 1: AD7534JNZ-ND; Supplier 2: Farnell; Supplier Part Number 2: 1079374; Supplier 3: Newark; Supplier Part Number 3: 31M4278; Supplier 4: Newark; Supplier Part Number 4: 19M0871; Supplier 5: Mouser; Supplier Part Number 5: 584-AD7534JNZ; Packing: Tube; RoHS: Y; Mounting Technology: Through Hole; Code_JEDEC: MS-001; ComponentLink1Description: Manufacturer URL; ComponentLink1URL: http://www.analog.com/en/index.html; ComponentLink2Description: Datasheet; ComponentLink2URL: http://www.analog.com/static/imported-files/data_sheets/AD7534.pdf; ComponentLink3Description: Package Specification; ComponentLink3URL: http://www.analog.com/static/imported-files/packages/50601349676519N_20.pdf; ComponentLink4Description: Product URL; ComponentLink4URL: http://www.analog.com/en/digital-to-analog-converters/da-converters/ad7534/products/product.html
footprint N-20 (DIP, 20-Leads, Row Spacing 7.62mm, Pitch 2.54mm, Body 25.9x6.6mm)
pins: 1 VREF (in) "Reference Input Voltage", 2 RFB (in) "Feedback resistor. Used to close the loop around an external op-amp.", 3 IOUT (out) "Current Output Terminal", 4 AGNDS (power) "Analog ground sense line. Reference point for external circuitry. This pin should carry minimal current.", 5 AGNDF (power) "Analog ground force line; carries current from internal analog ground connections. AGNDF and AGNDS are tied together internally.", 6 DGND (power) "Digital Ground.", 7 DB7 (in) "Data Bit 7", 8 DB6 (in) "Data Bit 6", 9 DB5 (in) "Data Bit 5 or  Data Bit 13(DAC MSB)", 10 DB4 (in) "Data Bit 4 or  Data Bit 12", 11 DB3 (in) "Data Bit 3 or  Data Bit 11", 12 DB2 (in) "Data Bit 2 or  Data Bit 10", 13 DB1 (in) "Data Bit 1 or  Data Bit 9", 14 DB0 (in) "Data Bit 0 or  Data Bit 8", 15 A1 (in) "Address line 1", 16 A0 (in) "Address line 0", 17 ~{WR} (in) "Write input. Active low.", 18 ~{CS} (in) "Chip Select Input. Active low.", 19 VDD (power) "+12 V to +15 V supply input.", 20 VSS (power) "Bias pin for High Temperature Low Leakage configuration. To implement low leakage system, the pin should be at a negative voltage. See Figures 4,5 or 6 for recommended circuitry."